# Altium schematic symbol library SCH - CLOCK BUFFER - TI LMK1C1108 PW.SchLib: 1 symbol
Pins are listed as number, name and electrical type; pins without a type are passive.

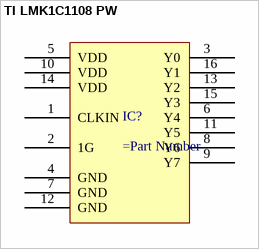
[diagram p0: symbol TI LMK1C1108 PW]

## TI LMK1C1108 PW
designator IC?
pins: 1 CLKIN, 2 1G, 3 Y0, 4 GND, 5 VDD, 6 Y4, 7 GND, 8 Y6, 9 Y7, 10 VDD, 11 Y5, 12 GND, 13 Y2, 14 VDD, 15 Y3, 16 Y1